# EAGLE library part 24AA256-I/SN (library mbed-HDK-IC)
EEPROM I2C 32-Kb I2C CMOS
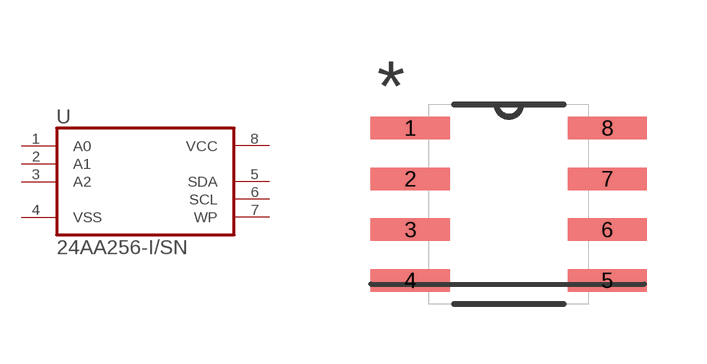
[diagram p8: symbol with the pads of SOIC127P600X175-8N; footprint SOIC127P600X175-8N]

Designator prefix U

## 24AA256-I/SN (MF: Microchip Technology; MFN: 24AA256-I/SN; OC-DIGIKEY: 24AA256-I/SN-ND; OC-FARNELL: 1331295; OC-MOUSER: 579-24AA256-I/SN)  [SOIC127P600X175-8N]
1  A0  in
2  A1  in
3  A2  in
4  VSS  pas
5  SDA
6  SCL  in
7  WP  in
8  VCC  pas

## Footprint SOIC127P600X175-8N (pad centres in mm)
smd 1.981 x 0.559: 1 -2.464,1.905; 2 -2.464,0.635; 3 -2.464,-0.635; 4 -2.464,-1.905; 5 2.464,-1.905; 6 2.464,-0.635; 7 2.464,0.635; 8 2.464,1.905